# EAGLE library part STM32L476RGT6 (library STM32L476RGT6)
ARM MCU 32-bit 80MHz 1024KB LQFP64 STMicroelectronics STM32L476RGT6, 32bit ARM Cortex M4 MCU, 80MHz, 1 MB Flash, 64-Pin LQFP Source: Datasheet <https://www.st.com/resource/en/datasheet/stm32l476rg.pdf>
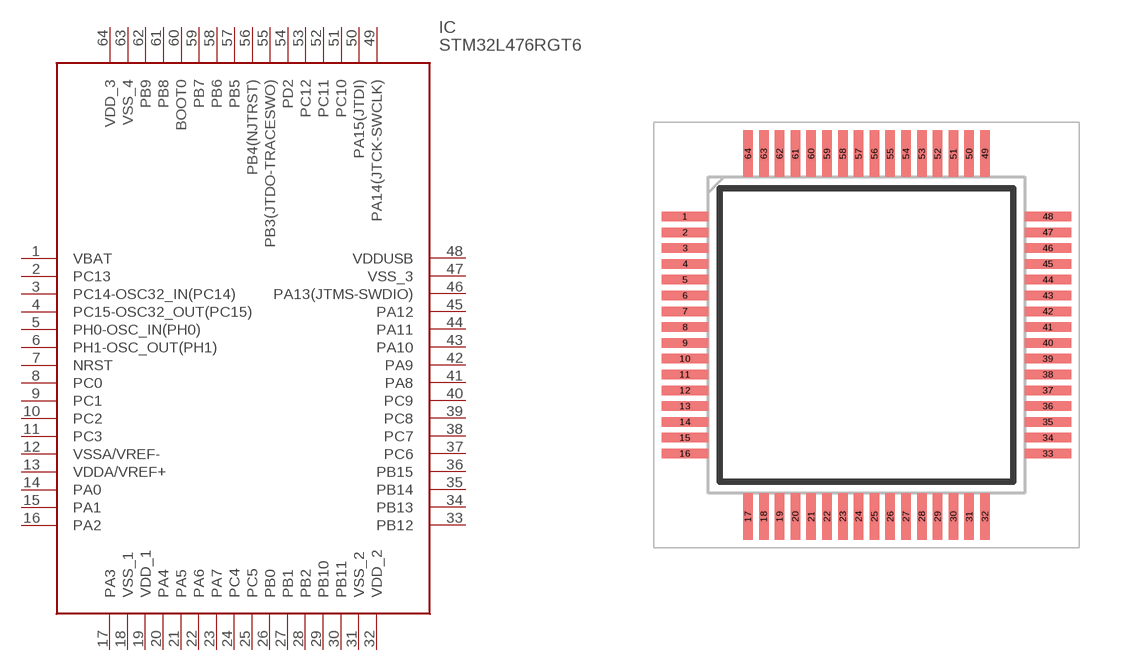
[diagram p0: symbol with the pads of QFP50P1200X1200X160-64N; footprint QFP50P1200X1200X160-64N]

Designator prefix IC

## STM32L476RGT6 (Description: ARM MCU 32-bit 80MHz 1024KB LQFP64 STMicroelectronics STM32L476RGT6, 32bit ARM Cortex M4 MCU, 80MHz, 1 MB Flash, 64-Pin LQFP; Height: 1.6mm; Manufacturer_Name: STMicroelectronics; Manufacturer_Part_Number: STM32L476RGT6; Mouser_Part_Number: 511-STM32L476RGT6; Mouser_Price-Stock: https://www.mouser.co.uk/ProductDetail/STMicroelectronics/STM32L476RGT6?qs=o58qnh%2FCpu44V%252B7CaDZzCA%3D%3D)  [QFP50P1200X1200X160-64N]
1  VBAT
2  PC13
3  PC14-OSC32_IN(PC14)
4  PC15-OSC32_OUT(PC15)
5  PH0-OSC_IN(PH0)
6  PH1-OSC_OUT(PH1)
7  NRST
8  PC0
9  PC1
10  PC2
11  PC3
12  VSSA/VREF-
13  VDDA/VREF+
14  PA0
15  PA1
16  PA2
17  PA3
18  VSS_1
19  VDD_1
20  PA4
21  PA5
22  PA6
23  PA7
24  PC4
25  PC5
26  PB0
27  PB1
28  PB2
29  PB10
30  PB11
31  VSS_2
32  VDD_2
33  PB12
34  PB13
35  PB14
36  PB15
37  PC6
38  PC7
39  PC8
40  PC9
41  PA8
42  PA9
43  PA10
44  PA11
45  PA12
46  PA13(JTMS-SWDIO)
47  VSS_3
48  VDDUSB
49  PA14(JTCK-SWCLK)
50  PA15(JTDI)
51  PC10
52  PC11
53  PC12
54  PD2
55  PB3(JTDO-TRACESWO)
56  PB4(NJTRST)
57  PB5
58  PB6
59  PB7
60  BOOT0
61  PB8
62  PB9
63  VSS_4
64  VDD_3

## Footprint QFP50P1200X1200X160-64N (pad centres in mm)
64-Pin low profile quad flat package (10x10)
smd 1.475 x 0.3: 1 -5.738,3.75; 2 -5.738,3.25; 3 -5.738,2.75; 4 -5.738,2.25; 5 -5.738,1.75; 6 -5.738,1.25; 7 -5.738,0.75; 8 -5.738,0.25; 9 -5.738,-0.25; 10 -5.738,-0.75; 11 -5.738,-1.25; 12 -5.738,-1.75; 13 -5.738,-2.25; 14 -5.738,-2.75; 15 -5.738,-3.25; 16 -5.738,-3.75; 33 5.738,-3.75; 34 5.738,-3.25; 35 5.738,-2.75; 36 5.738,-2.25; 37 5.738,-1.75; 38 5.738,-1.25; 39 5.738,-0.75; 40 5.738,-0.25; 41 5.738,0.25; 42 5.738,0.75; 43 5.738,1.25; 44 5.738,1.75; 45 5.738,2.25; 46 5.738,2.75; 47 5.738,3.25; 48 5.738,3.75
smd 0.3 x 1.475: 17 -3.75,-5.738; 18 -3.25,-5.738; 19 -2.75,-5.738; 20 -2.25,-5.738; 21 -1.75,-5.738; 22 -1.25,-5.738; 23 -0.75,-5.738; 24 -0.25,-5.738; 25 0.25,-5.738; 26 0.75,-5.738; 27 1.25,-5.738; 28 1.75,-5.738; 29 2.25,-5.738; 30 2.75,-5.738; 31 3.25,-5.738; 32 3.75,-5.738; 49 3.75,5.738; 50 3.25,5.738; 51 2.75,5.738; 52 2.25,5.738; 53 1.75,5.738; 54 1.25,5.738; 55 0.75,5.738; 56 0.25,5.738; 57 -0.25,5.738; 58 -0.75,5.738; 59 -1.25,5.738; 60 -1.75,5.738; 61 -2.25,5.738; 62 -2.75,5.738; 63 -3.25,5.738; 64 -3.75,5.738